# Altium footprint library hm_10.PcbLib: 1 footprints
Each footprint in its own frame and in the unit in brackets; x right, y up, seen from the top. Pads: shape width x height; smd on the part's side, far side on the other; paste and mask are expansions set on the pad; w line width, h text height; cw(c..) or ccw(c..) is an arc to the next point about the centre after c.
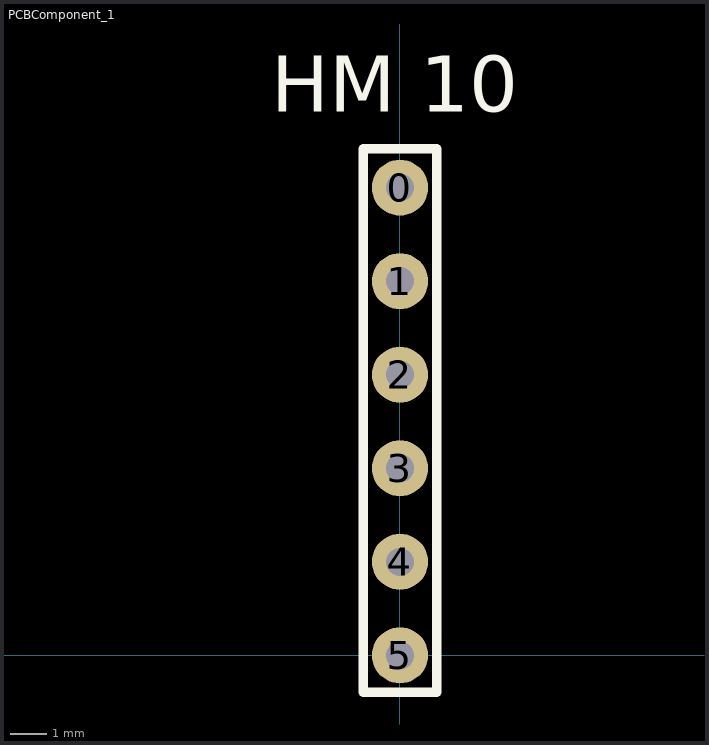
[diagram p0: the footprint, top view; thin cyan lines are the x and y axes]

## PCBComponent_1 [mil]
pads (6):
  round 60 hole 30: 0(0,500) 1(0,400) 2(0,300) 3(0,200) 4(0,100) 5(0,0)
Top Overlay:
  lines w10: -39.37,-39.37 -39.37,541.34 39.37,541.34 39.37,-39.37 -39.37,-39.37
  text "HM 10" at -137.64,580.87 h60